# EAGLE library part AS-ITM-00274 (library tinycircuits)
MOD IEEE802.15.4-2011 UWB TXRX
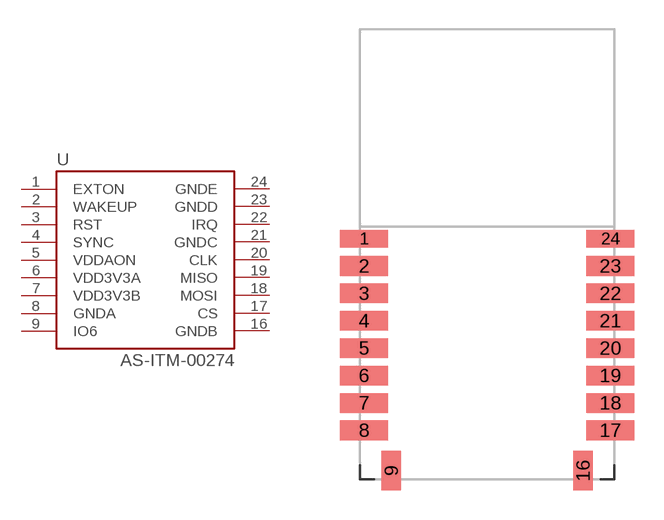
[diagram p110: symbol with the pads of DWM1000; footprint DWM1000]

Designator prefix U

## AS-ITM-00274 (PARTNO: AS-ITM-00274; VALUE: DWM1000)  [DWM1000]
1  EXTON
2  WAKEUP
3  RST
4  SYNC
5  VDDAON
6  VDD3V3A
7  VDD3V3B
8  GNDA
9  IO6
16  GNDB
17  CS
18  MOSI
19  MISO
20  CLK
21  GNDC
22  IRQ
23  GNDD
24  GNDE

## Footprint DWM1000 (pad centres in mm)
smd 2.45 x 0.9: 1 -6.295,0.8; 24 6.295,0.8
smd 2.45 x 1: 2 -6.295,-0.6; 3 -6.295,-2; 4 -6.295,-3.4; 5 -6.295,-4.8; 6 -6.295,-6.2; 7 -6.295,-7.6; 8 -6.295,-9; 17 6.295,-9; 18 6.295,-7.6; 19 6.295,-6.2; 20 6.295,-4.8; 21 6.295,-3.4; 22 6.295,-2; 23 6.295,-0.6
smd 1 x 2: 9 -4.9,-11.06; 16 4.9,-11.06